# Altium integrated library TI Amplifiers and Linear Operational Amplifier Fully Differential Amplifier.IntLib: 262 symbols (part 8 of 11)
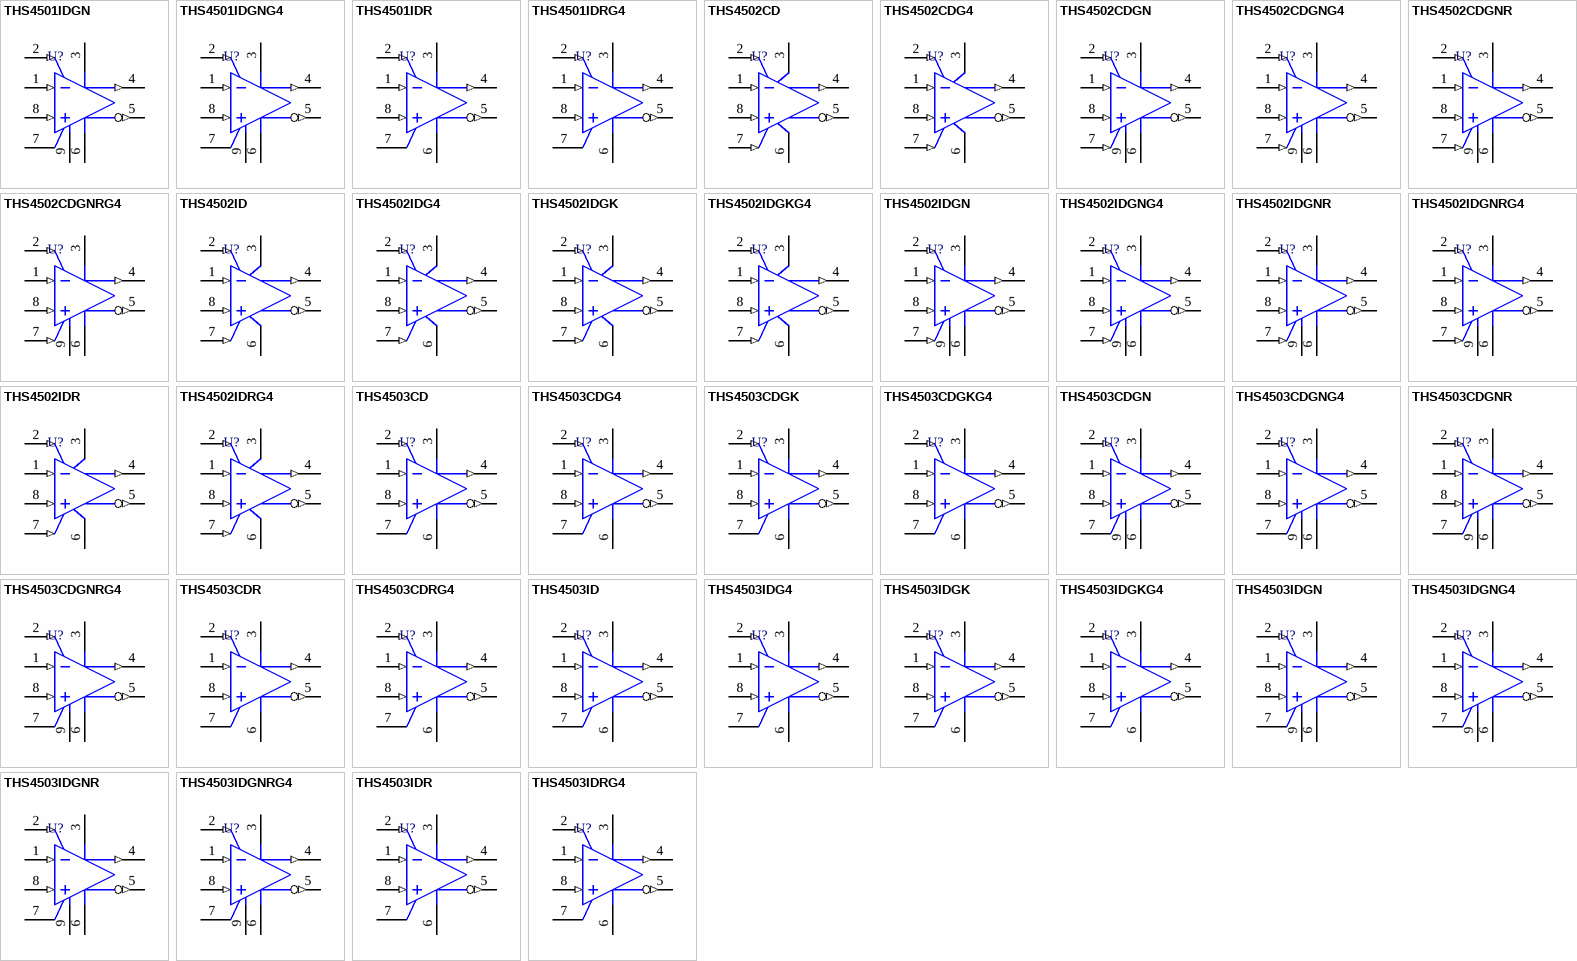
[diagram p14: symbols THS4501IDGN to THS4503IDRG4]

## THS4503CDGNRG4
designator U?
High-Speed Fully-Differential Amplifier, 4.5 to 15 V, 0 to 70 degC, 8-pin SOP (DGN8), Green (RoHS & no Sb/Br); Manufacturer: Texas Instruments; PartNumber: THS4503CDGNRG4; 2nd Harmonic(dBc): 74; 3rd Harmonic(dBc): 78; @ MHz: 30; BW @ Acl(MHz): 370; Io(Typ)(mA): 120; Iq per channel(Max)(mA): 34; Number of Channels: 1; Offset Voltage Drift (+/-)(Max)(uV/Degrees Celsius: 10; Settling Time (0.1%)(Typ)(ns): 6.3; Slew Rate(Typ)(V/us): 2800; SubFamily: Fully Differential Amplifier; THD (Fc is 1 MHz)(Typ)(dB): -99; Vio(Max)(mV): -4; Vn at Flatband(Typ)(nV/rtHz): 6.8; Vs(Max)(V): 15; Vs(Min)(V): 4.5; DatasheetVersion: SLOS352E; PackageVersion: 4073271/F, 05/2011; PackageReference: DGN8-1760X1425TP; PackageDescription: 8-Pin Plastic Small Outline, Body 3 x 3 mm, Pitch 0.65 mm; Supplier 1: Digi-Key; Supplier Part Number 1: THS4503CDGNRG4-ND; Supplier 2: Newark; Supplier Part Number 2: 24K5063; Supplier 3: Mouser; Supplier Part Number 3: 595-THS4503CDGNRG4; Eco-Plan: Green (RoHS & no Sb/Br); Mounting Technology: Surface Mount; Code_JEDEC: MO-187; ComponentLink1Description: Manufacturer URL; ComponentLink1URL: http://www.ti.com/; ComponentLink2Description: Datasheet; ComponentLink2URL: http://www.ti.com/general/docs/lit/getliterature.tsp?genericPartNumber=THS4503&fileType=pdf; ComponentLink3Description: Package Specification; ComponentLink3URL: http://www.ti.com/litv/pdf/mpds046e
footprint TI-DGN8-1760X1425TP_N (SOP, 8-Leads, Body 3x3mm, Pitch 0.65mm, Thermal Pad 1.76x1.425mm, IPC Medium Density)
footprint TI-DGN8-1760X1425TP_L (SOP, 8-Leads, Body 3x3mm, Pitch 0.65mm, Thermal Pad 1.76x1.425mm, IPC High Density)
footprint TI-DGN8-1760X1425TP_M (SOP, 8-Leads, Body 3x3mm, Pitch 0.65mm, Thermal Pad 1.76 x 1.425 mm, IPC Low Density)
pins: 1 VIN- (in), 2 VOCM (in), 3 VS+ (power), 4 VOUT+ (out), 5 VOUT- (out), 6 VS- (power), 7 NC, 8 VIN+ (in), 9 EP

## THS4503CDR
designator U?
High-Speed Fully-Differential Amplifier, 4.5 to 15 V, 0 to 70 degC, 8-pin SOIC (D8), Green (RoHS & no Sb/Br); Manufacturer: Texas Instruments; PartNumber: THS4503CDR; 2nd Harmonic(dBc): 74; 3rd Harmonic(dBc): 78; @ MHz: 30; BW @ Acl(MHz): 370; Io(Typ)(mA): 120; Iq per channel(Max)(mA): 34; Number of Channels: 1; Offset Voltage Drift (+/-)(Max)(uV/Degrees Celsius: 10; Settling Time (0.1%)(Typ)(ns): 6.3; Slew Rate(Typ)(V/us): 2800; SubFamily: Fully Differential Amplifier; THD (Fc is 1 MHz)(Typ)(dB): -99; Vio(Max)(mV): -4; Vn at Flatband(Typ)(nV/rtHz): 6.8; Vs(Max)(V): 15; Vs(Min)(V): 4.5; DatasheetVersion: SLOS352E; PackageVersion: 4040047-3/M, 06/2011; PackageReference: D8; PackageDescription: 8-Pin Plastic Small Outline, Body 4.9 x 3.9 mm, Pitch 1.27 mm; Supplier 1: Digi-Key; Supplier Part Number 1: THS4503CDR-ND; Supplier 2: Mouser; Supplier Part Number 2: 595-THS4503CDR; Eco-Plan: Green (RoHS & no Sb/Br); Mounting Technology: Surface Mount; Code_JEDEC: MS-012; ComponentLink1Description: Manufacturer URL; ComponentLink1URL: http://www.ti.com/; ComponentLink2Description: Datasheet; ComponentLink2URL: http://www.ti.com/general/docs/lit/getliterature.tsp?genericPartNumber=THS4503&fileType=pdf; ComponentLink3Description: Package Specification; ComponentLink3URL: http://www.ti.com/litv/pdf/msoi002j
footprint TI-D8_N (SOIC, 8-Leads, Body 4.9x3.9mm, Pitch 1.27mm, IPC Medium Density)
footprint TI-D8_L (SOIC, 8-Leads, Body 4.9x3.9mm, Pitch 1.27mm, IPC High Density)
footprint TI-D8_M (SOIC, 8-Leads, Body 4.9x3.9mm, Pitch 1.27mm, IPC Low Density)
pins: 1 VIN- (in), 2 VOCM (in), 3 VS+ (power), 4 VOUT+ (out), 5 VOUT- (out), 6 VS- (power), 7 NC, 8 VIN+ (in)

## THS4503CDRG4
designator U?
High-Speed Fully-Differential Amplifier, 4.5 to 15 V, 0 to 70 degC, 8-pin SOIC (D8), Green (RoHS & no Sb/Br); Manufacturer: Texas Instruments; PartNumber: THS4503CDRG4; 2nd Harmonic(dBc): 74; 3rd Harmonic(dBc): 78; @ MHz: 30; BW @ Acl(MHz): 370; Io(Typ)(mA): 120; Iq per channel(Max)(mA): 34; Number of Channels: 1; Offset Voltage Drift (+/-)(Max)(uV/Degrees Celsius: 10; Settling Time (0.1%)(Typ)(ns): 6.3; Slew Rate(Typ)(V/us): 2800; SubFamily: Fully Differential Amplifier; THD (Fc is 1 MHz)(Typ)(dB): -99; Vio(Max)(mV): -4; Vn at Flatband(Typ)(nV/rtHz): 6.8; Vs(Max)(V): 15; Vs(Min)(V): 4.5; DatasheetVersion: SLOS352E; PackageVersion: 4040047-3/M, 06/2011; PackageReference: D8; PackageDescription: 8-Pin Plastic Small Outline, Body 4.9 x 3.9 mm, Pitch 1.27 mm; Supplier 1: Digi-Key; Supplier Part Number 1: THS4503CDRG4-ND; Supplier 2: Mouser; Supplier Part Number 2: 595-THS4503CDRG4; Eco-Plan: Green (RoHS & no Sb/Br); Mounting Technology: Surface Mount; Code_JEDEC: MS-012; ComponentLink1Description: Manufacturer URL; ComponentLink1URL: http://www.ti.com/; ComponentLink2Description: Datasheet; ComponentLink2URL: http://www.ti.com/general/docs/lit/getliterature.tsp?genericPartNumber=THS4503&fileType=pdf; ComponentLink3Description: Package Specification; ComponentLink3URL: http://www.ti.com/litv/pdf/msoi002j
footprint TI-D8_N (SOIC, 8-Leads, Body 4.9x3.9mm, Pitch 1.27mm, IPC Medium Density)
footprint TI-D8_L (SOIC, 8-Leads, Body 4.9x3.9mm, Pitch 1.27mm, IPC High Density)
footprint TI-D8_M (SOIC, 8-Leads, Body 4.9x3.9mm, Pitch 1.27mm, IPC Low Density)
pins: 1 VIN- (in), 2 VOCM (in), 3 VS+ (power), 4 VOUT+ (out), 5 VOUT- (out), 6 VS- (power), 7 NC, 8 VIN+ (in)

## THS4503ID
designator U?
High-Speed Fully-Differential Amplifier, 4.5 to 15 V, -40 to 85 degC, 8-pin SOIC (D8), Green (RoHS & no Sb/Br); Manufacturer: Texas Instruments; PartNumber: THS4503ID; 2nd Harmonic(dBc): 74; 3rd Harmonic(dBc): 78; @ MHz: 30; BW @ Acl(MHz): 370; Io(Typ)(mA): 120; Iq per channel(Max)(mA): 34; Number of Channels: 1; Offset Voltage Drift (+/-)(Max)(uV/Degrees Celsius: 10; Settling Time (0.1%)(Typ)(ns): 6.3; Slew Rate(Typ)(V/us): 2800; SubFamily: Fully Differential Amplifier; THD (Fc is 1 MHz)(Typ)(dB): -99; Vio(Max)(mV): -4; Vn at Flatband(Typ)(nV/rtHz): 6.8; Vs(Max)(V): 15; Vs(Min)(V): 4.5; DatasheetVersion: SLOS352E; PackageVersion: 4040047-3/M, 06/2011; PackageReference: D8; PackageDescription: 8-Pin Plastic Small Outline, Body 4.9 x 3.9 mm, Pitch 1.27 mm; Supplier 1: Digi-Key; Supplier Part Number 1: 296-12938-5-ND; Supplier 2: Farnell; Supplier Part Number 2: 1365426; Supplier 3: Newark; Supplier Part Number 3: 76C6477; Supplier 4: Mouser; Supplier Part Number 4: 595-THS4503ID; Eco-Plan: Green (RoHS & no Sb/Br); Mounting Technology: Surface Mount; Code_JEDEC: MS-012; ComponentLink1Description: Manufacturer URL; ComponentLink1URL: http://www.ti.com/; ComponentLink2Description: Datasheet; ComponentLink2URL: http://www.ti.com/general/docs/lit/getliterature.tsp?genericPartNumber=THS4503&fileType=pdf; ComponentLink3Description: Package Specification; ComponentLink3URL: http://www.ti.com/litv/pdf/msoi002j
footprint TI-D8_N (SOIC, 8-Leads, Body 4.9x3.9mm, Pitch 1.27mm, IPC Medium Density)
footprint TI-D8_L (SOIC, 8-Leads, Body 4.9x3.9mm, Pitch 1.27mm, IPC High Density)
footprint TI-D8_M (SOIC, 8-Leads, Body 4.9x3.9mm, Pitch 1.27mm, IPC Low Density)
pins: 1 VIN- (in), 2 VOCM (in), 3 VS+ (power), 4 VOUT+ (out), 5 VOUT- (out), 6 VS- (power), 7 NC, 8 VIN+ (in)

## THS4503IDG4
designator U?
High-Speed Fully-Differential Amplifier, 4.5 to 15 V, -40 to 85 degC, 8-pin SOIC (D8), Green (RoHS & no Sb/Br); Manufacturer: Texas Instruments; PartNumber: THS4503IDG4; 2nd Harmonic(dBc): 74; 3rd Harmonic(dBc): 78; @ MHz: 30; BW @ Acl(MHz): 370; Io(Typ)(mA): 120; Iq per channel(Max)(mA): 34; Number of Channels: 1; Offset Voltage Drift (+/-)(Max)(uV/Degrees Celsius: 10; Settling Time (0.1%)(Typ)(ns): 6.3; Slew Rate(Typ)(V/us): 2800; SubFamily: Fully Differential Amplifier; THD (Fc is 1 MHz)(Typ)(dB): -99; Vio(Max)(mV): -4; Vn at Flatband(Typ)(nV/rtHz): 6.8; Vs(Max)(V): 15; Vs(Min)(V): 4.5; DatasheetVersion: SLOS352E; PackageVersion: 4040047-3/M, 06/2011; PackageReference: D8; PackageDescription: 8-Pin Plastic Small Outline, Body 4.9 x 3.9 mm, Pitch 1.27 mm; Supplier 1: Digi-Key; Supplier Part Number 1: THS4503IDG4-ND; Supplier 2: Mouser; Supplier Part Number 2: 595-THS4503IDG4; Eco-Plan: Green (RoHS & no Sb/Br); Mounting Technology: Surface Mount; Code_JEDEC: MS-012; ComponentLink1Description: Manufacturer URL; ComponentLink1URL: http://www.ti.com/; ComponentLink2Description: Datasheet; ComponentLink2URL: http://www.ti.com/general/docs/lit/getliterature.tsp?genericPartNumber=THS4503&fileType=pdf; ComponentLink3Description: Package Specification; ComponentLink3URL: http://www.ti.com/litv/pdf/msoi002j
footprint TI-D8_N (SOIC, 8-Leads, Body 4.9x3.9mm, Pitch 1.27mm, IPC Medium Density)
footprint TI-D8_L (SOIC, 8-Leads, Body 4.9x3.9mm, Pitch 1.27mm, IPC High Density)
footprint TI-D8_M (SOIC, 8-Leads, Body 4.9x3.9mm, Pitch 1.27mm, IPC Low Density)
pins: 1 VIN- (in), 2 VOCM (in), 3 VS+ (power), 4 VOUT+ (out), 5 VOUT- (out), 6 VS- (power), 7 NC, 8 VIN+ (in)

## THS4503IDGK
designator U?
High-Speed Fully-Differential Amplifier, 4.5 to 15 V, -40 to 85 degC, 8-pin SOP (DGK8), Green (RoHS & no Sb/Br); Manufacturer: Texas Instruments; PartNumber: THS4503IDGK; 2nd Harmonic(dBc): 74; 3rd Harmonic(dBc): 78; @ MHz: 30; BW @ Acl(MHz): 370; Io(Typ)(mA): 120; Iq per channel(Max)(mA): 34; Number of Channels: 1; Offset Voltage Drift (+/-)(Max)(uV/Degrees Celsius: 10; Settling Time (0.1%)(Typ)(ns): 6.3; Slew Rate(Typ)(V/us): 2800; SubFamily: Fully Differential Amplifier; THD (Fc is 1 MHz)(Typ)(dB): -99; Vio(Max)(mV): -4; Vn at Flatband(Typ)(nV/rtHz): 6.8; Vs(Max)(V): 15; Vs(Min)(V): 4.5; DatasheetVersion: SLOS352E; PackageVersion: 4073329/E, 05/2006; PackageReference: DGK8; PackageDescription: 8-Pin Thin Small Outline, Body 3 x 3 mm, Pitch 0.65 mm; Supplier 1: Digi-Key; Supplier Part Number 1: 296-16790-5-ND; Supplier 2: Mouser; Supplier Part Number 2: 595-THS4503IDGK; Eco-Plan: Green (RoHS & no Sb/Br); Mounting Technology: Surface Mount; Code_JEDEC: MO-187; ComponentLink1Description: Manufacturer URL; ComponentLink1URL: http://www.ti.com/; ComponentLink2Description: Datasheet; ComponentLink2URL: http://www.ti.com/general/docs/lit/getliterature.tsp?genericPartNumber=THS4503&fileType=pdf; ComponentLink3Description: Package Specification; ComponentLink3URL: http://www.ti.com/litv/pdf/mpds028d
footprint TI-DGK8_N (SOP, 8-Leads, Body 3x3mm, Pitch 0.65mm, IPC Medium Density)
footprint TI-DGK8_L (SOP, 8-Leads, Body 3x3mm, Pitch 0.65mm, IPC High Density)
footprint TI-DGK8_M (SOP, 8-Leads, Body 3x3mm, Pitch 0.65mm, IPC Low Density)
pins: 1 VIN- (in), 2 VOCM (in), 3 VS+ (power), 4 VOUT+ (out), 5 VOUT- (out), 6 VS- (power), 7 NC, 8 VIN+ (in)

## THS4503IDGKG4
designator U?
High-Speed Fully-Differential Amplifier, 4.5 to 15 V, -40 to 85 degC, 8-pin SOP (DGK8), Green (RoHS & no Sb/Br); Manufacturer: Texas Instruments; PartNumber: THS4503IDGKG4; 2nd Harmonic(dBc): 74; 3rd Harmonic(dBc): 78; @ MHz: 30; BW @ Acl(MHz): 370; Io(Typ)(mA): 120; Iq per channel(Max)(mA): 34; Number of Channels: 1; Offset Voltage Drift (+/-)(Max)(uV/Degrees Celsius: 10; Settling Time (0.1%)(Typ)(ns): 6.3; Slew Rate(Typ)(V/us): 2800; SubFamily: Fully Differential Amplifier; THD (Fc is 1 MHz)(Typ)(dB): -99; Vio(Max)(mV): -4; Vn at Flatband(Typ)(nV/rtHz): 6.8; Vs(Max)(V): 15; Vs(Min)(V): 4.5; DatasheetVersion: SLOS352E; PackageVersion: 4073329/E, 05/2006; PackageReference: DGK8; PackageDescription: 8-Pin Thin Small Outline, Body 3 x 3 mm, Pitch 0.65 mm; Supplier 1: Digi-Key; Supplier Part Number 1: THS4503IDGKG4-ND; Supplier 2: Mouser; Supplier Part Number 2: 595-THS4503IDGKG4; Eco-Plan: Green (RoHS & no Sb/Br); Mounting Technology: Surface Mount; Code_JEDEC: MO-187; ComponentLink1Description: Manufacturer URL; ComponentLink1URL: http://www.ti.com/; ComponentLink2Description: Datasheet; ComponentLink2URL: http://www.ti.com/general/docs/lit/getliterature.tsp?genericPartNumber=THS4503&fileType=pdf; ComponentLink3Description: Package Specification; ComponentLink3URL: http://www.ti.com/litv/pdf/mpds028d
footprint TI-DGK8_N (SOP, 8-Leads, Body 3x3mm, Pitch 0.65mm, IPC Medium Density)
footprint TI-DGK8_L (SOP, 8-Leads, Body 3x3mm, Pitch 0.65mm, IPC High Density)
footprint TI-DGK8_M (SOP, 8-Leads, Body 3x3mm, Pitch 0.65mm, IPC Low Density)
pins: 1 VIN- (in), 2 VOCM (in), 3 VS+ (power), 4 VOUT+ (out), 5 VOUT- (out), 6 VS- (power), 7 NC, 8 VIN+ (in)

## THS4503IDGN
designator U?
High-Speed Fully-Differential Amplifier, 4.5 to 15 V, -40 to 85 degC, 8-pin SOP (DGN8), Green (RoHS & no Sb/Br); Manufacturer: Texas Instruments; PartNumber: THS4503IDGN; 2nd Harmonic(dBc): 74; 3rd Harmonic(dBc): 78; @ MHz: 30; BW @ Acl(MHz): 370; Io(Typ)(mA): 120; Iq per channel(Max)(mA): 34; Number of Channels: 1; Offset Voltage Drift (+/-)(Max)(uV/Degrees Celsius: 10; Settling Time (0.1%)(Typ)(ns): 6.3; Slew Rate(Typ)(V/us): 2800; SubFamily: Fully Differential Amplifier; THD (Fc is 1 MHz)(Typ)(dB): -99; Vio(Max)(mV): -4; Vn at Flatband(Typ)(nV/rtHz): 6.8; Vs(Max)(V): 15; Vs(Min)(V): 4.5; DatasheetVersion: SLOS352E; PackageVersion: 4073271/F, 05/2011; PackageReference: DGN8-1760X1425TP; PackageDescription: 8-Pin Plastic Small Outline, Body 3 x 3 mm, Pitch 0.65 mm; Supplier 1: Digi-Key; Supplier Part Number 1: 296-13048-5-ND; Supplier 2: Farnell; Supplier Part Number 2: 8453403; Supplier 3: Newark; Supplier Part Number 3: 38K8266; Supplier 4: Newark; Supplier Part Number 4: 73C7816; Supplier 5: Mouser; Supplier Part Number 5: 595-THS4503IDGN; Eco-Plan: Green (RoHS & no Sb/Br); Mounting Technology: Surface Mount; Code_JEDEC: MO-187; ComponentLink1Description: Manufacturer URL; ComponentLink1URL: http://www.ti.com/; ComponentLink2Description: Datasheet; ComponentLink2URL: http://www.ti.com/general/docs/lit/getliterature.tsp?genericPartNumber=THS4503&fileType=pdf; ComponentLink3Description: Package Specification; ComponentLink3URL: http://www.ti.com/litv/pdf/mpds046e
footprint TI-DGN8-1760X1425TP_N (SOP, 8-Leads, Body 3x3mm, Pitch 0.65mm, Thermal Pad 1.76x1.425mm, IPC Medium Density)
footprint TI-DGN8-1760X1425TP_L (SOP, 8-Leads, Body 3x3mm, Pitch 0.65mm, Thermal Pad 1.76x1.425mm, IPC High Density)
footprint TI-DGN8-1760X1425TP_M (SOP, 8-Leads, Body 3x3mm, Pitch 0.65mm, Thermal Pad 1.76 x 1.425 mm, IPC Low Density)
pins: 1 VIN- (in), 2 VOCM (in), 3 VS+ (power), 4 VOUT+ (out), 5 VOUT- (out), 6 VS- (power), 7 NC, 8 VIN+ (in), 9 EP

## THS4503IDGNG4
designator U?
High-Speed Fully-Differential Amplifier, 4.5 to 15 V, -40 to 85 degC, 8-pin SOP (DGN8), Green (RoHS & no Sb/Br); Manufacturer: Texas Instruments; PartNumber: THS4503IDGNG4; 2nd Harmonic(dBc): 74; 3rd Harmonic(dBc): 78; @ MHz: 30; BW @ Acl(MHz): 370; Io(Typ)(mA): 120; Iq per channel(Max)(mA): 34; Number of Channels: 1; Offset Voltage Drift (+/-)(Max)(uV/Degrees Celsius: 10; Settling Time (0.1%)(Typ)(ns): 6.3; Slew Rate(Typ)(V/us): 2800; SubFamily: Fully Differential Amplifier; THD (Fc is 1 MHz)(Typ)(dB): -99; Vio(Max)(mV): -4; Vn at Flatband(Typ)(nV/rtHz): 6.8; Vs(Max)(V): 15; Vs(Min)(V): 4.5; DatasheetVersion: SLOS352E; PackageVersion: 4073271/F, 05/2011; PackageReference: DGN8-1760X1425TP; PackageDescription: 8-Pin Plastic Small Outline, Body 3 x 3 mm, Pitch 0.65 mm; Supplier 1: Digi-Key; Supplier Part Number 1: THS4503IDGNG4-ND; Supplier 2: Mouser; Supplier Part Number 2: 595-THS4503IDGNG4; Eco-Plan: Green (RoHS & no Sb/Br); Mounting Technology: Surface Mount; Code_JEDEC: MO-187; ComponentLink1Description: Manufacturer URL; ComponentLink1URL: http://www.ti.com/; ComponentLink2Description: Datasheet; ComponentLink2URL: http://www.ti.com/general/docs/lit/getliterature.tsp?genericPartNumber=THS4503&fileType=pdf; ComponentLink3Description: Package Specification; ComponentLink3URL: http://www.ti.com/litv/pdf/mpds046e
footprint TI-DGN8-1760X1425TP_N (SOP, 8-Leads, Body 3x3mm, Pitch 0.65mm, Thermal Pad 1.76x1.425mm, IPC Medium Density)
footprint TI-DGN8-1760X1425TP_L (SOP, 8-Leads, Body 3x3mm, Pitch 0.65mm, Thermal Pad 1.76x1.425mm, IPC High Density)
footprint TI-DGN8-1760X1425TP_M (SOP, 8-Leads, Body 3x3mm, Pitch 0.65mm, Thermal Pad 1.76 x 1.425 mm, IPC Low Density)
pins: 1 VIN- (in), 2 VOCM (in), 3 VS+ (power), 4 VOUT+ (out), 5 VOUT- (out), 6 VS- (power), 7 NC, 8 VIN+ (in), 9 EP

## THS4503IDGNR
designator U?
High-Speed Fully-Differential Amplifier, 4.5 to 15 V, -40 to 85 degC, 8-pin SOP (DGN8), Green (RoHS & no Sb/Br); Manufacturer: Texas Instruments; PartNumber: THS4503IDGNR; 2nd Harmonic(dBc): 74; 3rd Harmonic(dBc): 78; @ MHz: 30; BW @ Acl(MHz): 370; Io(Typ)(mA): 120; Iq per channel(Max)(mA): 34; Number of Channels: 1; Offset Voltage Drift (+/-)(Max)(uV/Degrees Celsius: 10; Settling Time (0.1%)(Typ)(ns): 6.3; Slew Rate(Typ)(V/us): 2800; SubFamily: Fully Differential Amplifier; THD (Fc is 1 MHz)(Typ)(dB): -99; Vio(Max)(mV): -4; Vn at Flatband(Typ)(nV/rtHz): 6.8; Vs(Max)(V): 15; Vs(Min)(V): 4.5; DatasheetVersion: SLOS352E; PackageVersion: 4073271/F, 05/2011; PackageReference: DGN8-1760X1425TP; PackageDescription: 8-Pin Plastic Small Outline, Body 3 x 3 mm, Pitch 0.65 mm; Supplier 1: Digi-Key; Supplier Part Number 1: THS4503IDGNR-ND; Supplier 2: Mouser; Supplier Part Number 2: 595-THS4503IDGNR; Eco-Plan: Green (RoHS & no Sb/Br); Mounting Technology: Surface Mount; Code_JEDEC: MO-187; ComponentLink1Description: Manufacturer URL; ComponentLink1URL: http://www.ti.com/; ComponentLink2Description: Datasheet; ComponentLink2URL: http://www.ti.com/general/docs/lit/getliterature.tsp?genericPartNumber=THS4503&fileType=pdf; ComponentLink3Description: Package Specification; ComponentLink3URL: http://www.ti.com/litv/pdf/mpds046e
footprint TI-DGN8-1760X1425TP_N (SOP, 8-Leads, Body 3x3mm, Pitch 0.65mm, Thermal Pad 1.76x1.425mm, IPC Medium Density)
footprint TI-DGN8-1760X1425TP_L (SOP, 8-Leads, Body 3x3mm, Pitch 0.65mm, Thermal Pad 1.76x1.425mm, IPC High Density)
footprint TI-DGN8-1760X1425TP_M (SOP, 8-Leads, Body 3x3mm, Pitch 0.65mm, Thermal Pad 1.76 x 1.425 mm, IPC Low Density)
pins: 1 VIN- (in), 2 VOCM (in), 3 VS+ (power), 4 VOUT+ (out), 5 VOUT- (out), 6 VS- (power), 7 NC, 8 VIN+ (in), 9 EP

## THS4503IDGNRG4
designator U?
High-Speed Fully-Differential Amplifier, 4.5 to 15 V, -40 to 85 degC, 8-pin SOP (DGN8), Green (RoHS & no Sb/Br); Manufacturer: Texas Instruments; PartNumber: THS4503IDGNRG4; 2nd Harmonic(dBc): 74; 3rd Harmonic(dBc): 78; @ MHz: 30; BW @ Acl(MHz): 370; Io(Typ)(mA): 120; Iq per channel(Max)(mA): 34; Number of Channels: 1; Offset Voltage Drift (+/-)(Max)(uV/Degrees Celsius: 10; Settling Time (0.1%)(Typ)(ns): 6.3; Slew Rate(Typ)(V/us): 2800; SubFamily: Fully Differential Amplifier; THD (Fc is 1 MHz)(Typ)(dB): -99; Vio(Max)(mV): -4; Vn at Flatband(Typ)(nV/rtHz): 6.8; Vs(Max)(V): 15; Vs(Min)(V): 4.5; DatasheetVersion: SLOS352E; PackageVersion: 4073271/F, 05/2011; PackageReference: DGN8-1760X1425TP; PackageDescription: 8-Pin Plastic Small Outline, Body 3 x 3 mm, Pitch 0.65 mm; Supplier 1: Digi-Key; Supplier Part Number 1: THS4503IDGNRG4-ND; Supplier 2: Mouser; Supplier Part Number 2: 595-THS4503IDGNRG4; Eco-Plan: Green (RoHS & no Sb/Br); Mounting Technology: Surface Mount; Code_JEDEC: MO-187; ComponentLink1Description: Manufacturer URL; ComponentLink1URL: http://www.ti.com/; ComponentLink2Description: Datasheet; ComponentLink2URL: http://www.ti.com/general/docs/lit/getliterature.tsp?genericPartNumber=THS4503&fileType=pdf; ComponentLink3Description: Package Specification; ComponentLink3URL: http://www.ti.com/litv/pdf/mpds046e
footprint TI-DGN8-1760X1425TP_N (SOP, 8-Leads, Body 3x3mm, Pitch 0.65mm, Thermal Pad 1.76x1.425mm, IPC Medium Density)
footprint TI-DGN8-1760X1425TP_L (SOP, 8-Leads, Body 3x3mm, Pitch 0.65mm, Thermal Pad 1.76x1.425mm, IPC High Density)
footprint TI-DGN8-1760X1425TP_M (SOP, 8-Leads, Body 3x3mm, Pitch 0.65mm, Thermal Pad 1.76 x 1.425 mm, IPC Low Density)
pins: 1 VIN- (in), 2 VOCM (in), 3 VS+ (power), 4 VOUT+ (out), 5 VOUT- (out), 6 VS- (power), 7 NC, 8 VIN+ (in), 9 EP

## THS4503IDR
designator U?
High-Speed Fully-Differential Amplifier, 4.5 to 15 V, -40 to 85 degC, 8-pin SOIC (D8), Green (RoHS & no Sb/Br); Manufacturer: Texas Instruments; PartNumber: THS4503IDR; 2nd Harmonic(dBc): 74; 3rd Harmonic(dBc): 78; @ MHz: 30; BW @ Acl(MHz): 370; Io(Typ)(mA): 120; Iq per channel(Max)(mA): 34; Number of Channels: 1; Offset Voltage Drift (+/-)(Max)(uV/Degrees Celsius: 10; Settling Time (0.1%)(Typ)(ns): 6.3; Slew Rate(Typ)(V/us): 2800; SubFamily: Fully Differential Amplifier; THD (Fc is 1 MHz)(Typ)(dB): -99; Vio(Max)(mV): -4; Vn at Flatband(Typ)(nV/rtHz): 6.8; Vs(Max)(V): 15; Vs(Min)(V): 4.5; DatasheetVersion: SLOS352E; PackageVersion: 4040047-3/M, 06/2011; PackageReference: D8; PackageDescription: 8-Pin Plastic Small Outline, Body 4.9 x 3.9 mm, Pitch 1.27 mm; Supplier 1: Digi-Key; Supplier Part Number 1: THS4503IDR-ND; Supplier 2: Mouser; Supplier Part Number 2: 595-THS4503IDR; Eco-Plan: Green (RoHS & no Sb/Br); Mounting Technology: Surface Mount; Code_JEDEC: MS-012; ComponentLink1Description: Manufacturer URL; ComponentLink1URL: http://www.ti.com/; ComponentLink2Description: Datasheet; ComponentLink2URL: http://www.ti.com/general/docs/lit/getliterature.tsp?genericPartNumber=THS4503&fileType=pdf; ComponentLink3Description: Package Specification; ComponentLink3URL: http://www.ti.com/litv/pdf/msoi002j
footprint TI-D8_N (SOIC, 8-Leads, Body 4.9x3.9mm, Pitch 1.27mm, IPC Medium Density)
footprint TI-D8_L (SOIC, 8-Leads, Body 4.9x3.9mm, Pitch 1.27mm, IPC High Density)
footprint TI-D8_M (SOIC, 8-Leads, Body 4.9x3.9mm, Pitch 1.27mm, IPC Low Density)
pins: 1 VIN- (in), 2 VOCM (in), 3 VS+ (power), 4 VOUT+ (out), 5 VOUT- (out), 6 VS- (power), 7 NC, 8 VIN+ (in)

## THS4503IDRG4
designator U?
High-Speed Fully-Differential Amplifier, 4.5 to 15 V, -40 to 85 degC, 8-pin SOIC (D8), Green (RoHS & no Sb/Br); Manufacturer: Texas Instruments; PartNumber: THS4503IDRG4; 2nd Harmonic(dBc): 74; 3rd Harmonic(dBc): 78; @ MHz: 30; BW @ Acl(MHz): 370; Io(Typ)(mA): 120; Iq per channel(Max)(mA): 34; Number of Channels: 1; Offset Voltage Drift (+/-)(Max)(uV/Degrees Celsius: 10; Settling Time (0.1%)(Typ)(ns): 6.3; Slew Rate(Typ)(V/us): 2800; SubFamily: Fully Differential Amplifier; THD (Fc is 1 MHz)(Typ)(dB): -99; Vio(Max)(mV): -4; Vn at Flatband(Typ)(nV/rtHz): 6.8; Vs(Max)(V): 15; Vs(Min)(V): 4.5; DatasheetVersion: SLOS352E; PackageVersion: 4040047-3/M, 06/2011; PackageReference: D8; PackageDescription: 8-Pin Plastic Small Outline, Body 4.9 x 3.9 mm, Pitch 1.27 mm; Supplier 1: Digi-Key; Supplier Part Number 1: THS4503IDRG4-ND; Supplier 2: Mouser; Supplier Part Number 2: 595-THS4503IDRG4; Eco-Plan: Green (RoHS & no Sb/Br); Mounting Technology: Surface Mount; Code_JEDEC: MS-012; ComponentLink1Description: Manufacturer URL; ComponentLink1URL: http://www.ti.com/; ComponentLink2Description: Datasheet; ComponentLink2URL: http://www.ti.com/general/docs/lit/getliterature.tsp?genericPartNumber=THS4503&fileType=pdf; ComponentLink3Description: Package Specification; ComponentLink3URL: http://www.ti.com/litv/pdf/msoi002j
footprint TI-D8_N (SOIC, 8-Leads, Body 4.9x3.9mm, Pitch 1.27mm, IPC Medium Density)
footprint TI-D8_L (SOIC, 8-Leads, Body 4.9x3.9mm, Pitch 1.27mm, IPC High Density)
footprint TI-D8_M (SOIC, 8-Leads, Body 4.9x3.9mm, Pitch 1.27mm, IPC Low Density)
pins: 1 VIN- (in), 2 VOCM (in), 3 VS+ (power), 4 VOUT+ (out), 5 VOUT- (out), 6 VS- (power), 7 NC, 8 VIN+ (in)

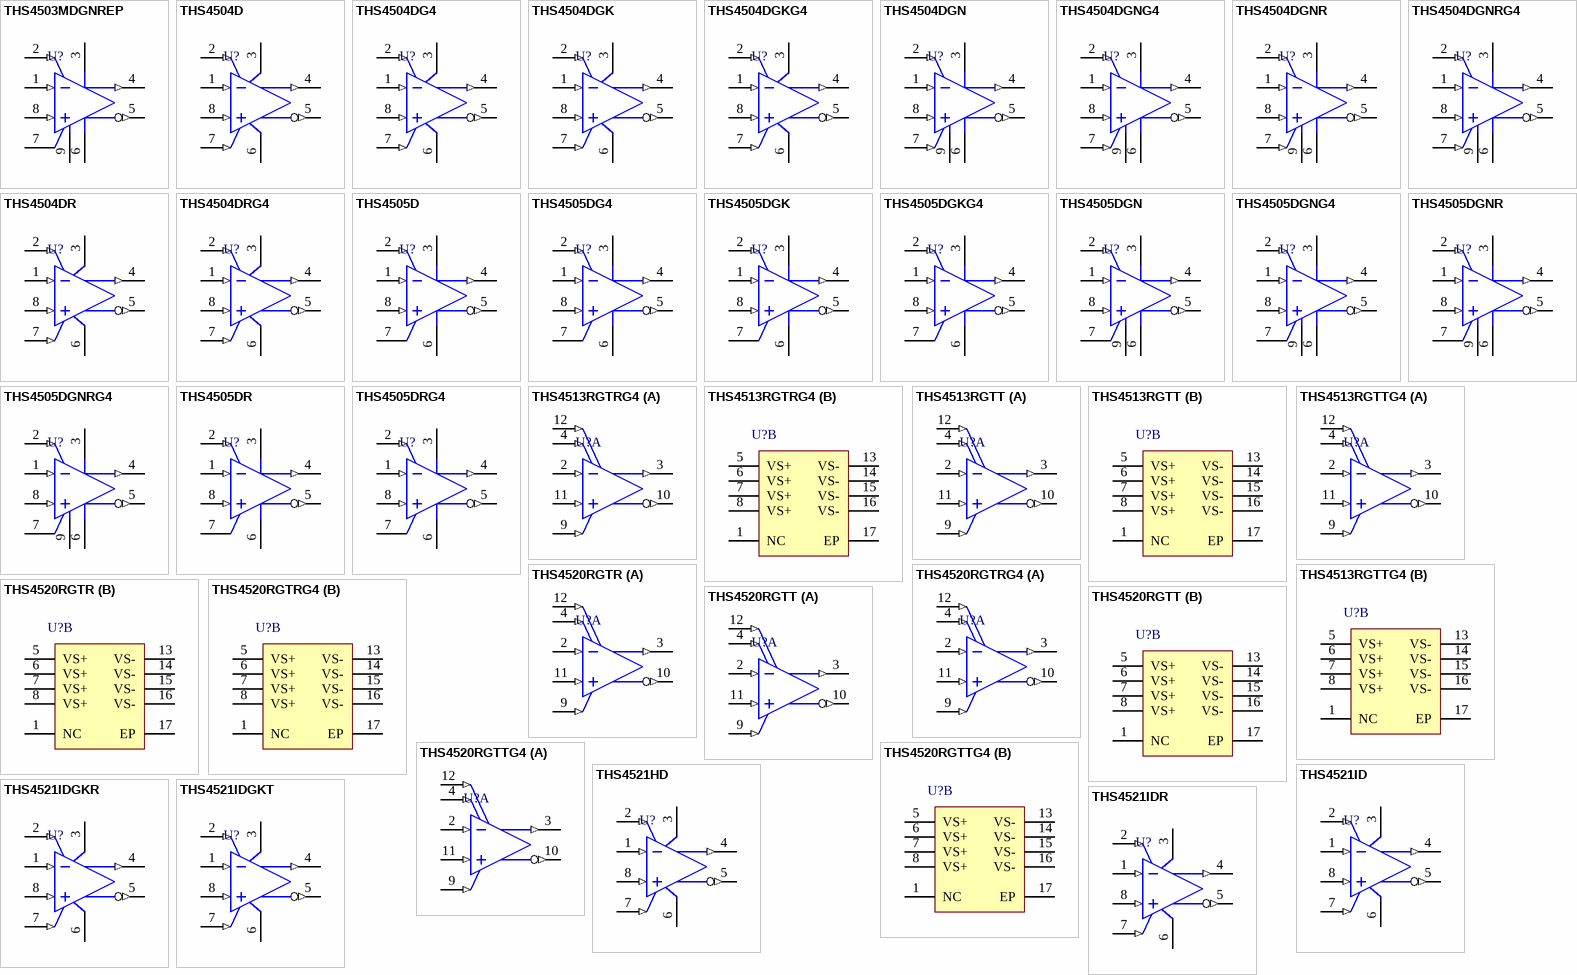
[diagram p5: symbols THS4503MDGNREP to THS4521IDR]

## THS4503MDGNREP
designator U?
Enhanced Product Wideband Low-Distortion Fully Differential Amplifier, 4.5 to 15 V, -55 to 60 degC, 8-pin SOP (DGN8), Green (RoHS & no Sb/Br); Manufacturer: Texas Instruments; PartNumber: THS4503MDGNREP; 2nd Harmonic(dBc): 74; 3rd Harmonic(dBc): 78; @ MHz: 30; BW @ Acl(MHz): 370; Iq per channel(Max)(mA): 28; Number of Channels: 1; Offset Voltage Drift (+/-)(Max)(uV/Degrees Celsius: 10; Settling Time (0.1%)(Typ)(ns): 8.3; Slew Rate(Typ)(V/us): 2800; Vio(Max)(mV): 7; Vn at Flatband(Typ)(nV/rtHz): 6.8; Vs(Max)(V): 15; Vs(Min)(V): 4.5; DatasheetVersion: SGLS291A; PackageVersion: 4073271/F, 05/2011; PackageReference: DGN8-1760X1425TP; PackageDescription: 8-Pin Plastic Small Outline, Body 3 x 3 mm, Pitch 0.65 mm; Supplier 1: Digi-Key; Supplier Part Number 1: 296-19510-2-ND; Supplier 2: Digi-Key; Supplier Part Number 2: 296-19510-1-ND; Supplier 3: Digi-Key; Supplier Part Number 3: 296-19510-6-ND; Supplier 4: Mouser; Supplier Part Number 4: 595-THS4503MDGNREP; Eco-Plan: Green (RoHS & no Sb/Br); SubFamily: Fully Differential Amplifier; Mounting Technology: Surface Mount; Code_JEDEC: MO-187; ComponentLink1Description: Manufacturer URL; ComponentLink1URL: http://www.ti.com/; ComponentLink2Description: Datasheet; ComponentLink2URL: http://www.ti.com/general/docs/lit/getliterature.tsp?genericPartNumber=THS4503-EP&fileType=pdf; ComponentLink3Description: Package Specification; ComponentLink3URL: http://www.ti.com/litv/pdf/mpds046e
footprint TI-DGN8-1760X1425TP_N (SOP, 8-Leads, Body 3x3mm, Pitch 0.65mm, Thermal Pad 1.76x1.425mm, IPC Medium Density)
footprint TI-DGN8-1760X1425TP_L (SOP, 8-Leads, Body 3x3mm, Pitch 0.65mm, Thermal Pad 1.76x1.425mm, IPC High Density)
footprint TI-DGN8-1760X1425TP_M (SOP, 8-Leads, Body 3x3mm, Pitch 0.65mm, Thermal Pad 1.76 x 1.425 mm, IPC Low Density)
pins: 1 VIN- (in), 2 VOCM (in), 3 VS+ (power), 4 VOUT+ (out), 5 VOUT- (out), 6 VS- (power), 7 NC, 8 VIN+ (in), 9 EP

## THS4504D
designator U?
Wideband, Low Distortion Fully Differential Amplifier with Shutdown, 4.5 to 15 V, -40 to 85 degC, 8-pin SOIC (D8), Green (RoHS & no Sb/Br); Manufacturer: Texas Instruments; PartNumber: THS4504D; 2nd Harmonic(dBc): 66; 3rd Harmonic(dBc): 65; @ MHz: 30; BW @ Acl(MHz): 260; Io(Typ)(mA): 100; Iq per channel(Max)(mA): 21; Number of Channels: 1; Offset Voltage Drift (+/-)(Max)(uV/Degrees Celsius: 10; Settling Time (0.1%)(Typ)(ns): 20; Slew Rate(Typ)(V/us): 1800; THD (Fc is 1 MHz)(Typ)(dB): -78; Vio(Max)(mV): -7; Vn at Flatband(Typ)(nV/rtHz): 8; Vs(Max)(V): 15; Vs(Min)(V): 4.5; DatasheetVersion: SLOS363D; PackageVersion: 4040047-3/M, 06/2011; PackageReference: D8; PackageDescription: 8-Pin Plastic Small Outline, Body 4.9 x 3.9 mm, Pitch 1.27 mm; Supplier 1: Digi-Key; Supplier Part Number 1: 296-15618-5-ND; Supplier 2: Newark; Supplier Part Number 2: 02E7132; Supplier 3: Mouser; Supplier Part Number 3: 595-THS4504D; Eco-Plan: Green (RoHS & no Sb/Br); SubFamily: Fully Differential Amplifier; Mounting Technology: Surface Mount; Code_JEDEC: MS-012; ComponentLink1Description: Manufacturer URL; ComponentLink1URL: http://www.ti.com/; ComponentLink2Description: Datasheet; ComponentLink2URL: http://www.ti.com/general/docs/lit/getliterature.tsp?genericPartNumber=THS4504&fileType=pdf; ComponentLink3Description: Package Specification; ComponentLink3URL: http://www.ti.com/litv/pdf/msoi002j
footprint TI-D8_N (SOIC, 8-Leads, Body 4.9x3.9mm, Pitch 1.27mm, IPC Medium Density)
footprint TI-D8_L (SOIC, 8-Leads, Body 4.9x3.9mm, Pitch 1.27mm, IPC High Density)
footprint TI-D8_M (SOIC, 8-Leads, Body 4.9x3.9mm, Pitch 1.27mm, IPC Low Density)
pins: 1 VIN- (in) "Inverting amplifier input", 2 VOCM (in) "Common-mode voltage input", 3 VS+ (power) "Amplifier positive power-supply input", 4 VOUT+ (out) "Noninverting amplifier output", 5 VOUT- (out) "Inverting amplifier output", 6 VS- (power) "Amplifier negative power-supply input. Note that VS- is tied together on multi-channel devices.", 7 ~{PD} (in) "Power down. P\D\ = logic low puts device into low-power mode. P\D\ = logic high or open for normal operation.", 8 VIN+ (in) "Noninverting amplifier input"

## THS4504DG4
designator U?
Wideband, Low Distortion Fully Differential Amplifier with Shutdown, 4.5 to 15 V, -40 to 85 degC, 8-pin SOIC (D8), Green (RoHS & no Sb/Br); Manufacturer: Texas Instruments; PartNumber: THS4504DG4; 2nd Harmonic(dBc): 66; 3rd Harmonic(dBc): 65; @ MHz: 30; BW @ Acl(MHz): 260; Io(Typ)(mA): 100; Iq per channel(Max)(mA): 21; Number of Channels: 1; Offset Voltage Drift (+/-)(Max)(uV/Degrees Celsius: 10; Settling Time (0.1%)(Typ)(ns): 20; Slew Rate(Typ)(V/us): 1800; THD (Fc is 1 MHz)(Typ)(dB): -78; Vio(Max)(mV): -7; Vn at Flatband(Typ)(nV/rtHz): 8; Vs(Max)(V): 15; Vs(Min)(V): 4.5; DatasheetVersion: SLOS363D; PackageVersion: 4040047-3/M, 06/2011; PackageReference: D8; PackageDescription: 8-Pin Plastic Small Outline, Body 4.9 x 3.9 mm, Pitch 1.27 mm; Supplier 1: Digi-Key; Supplier Part Number 1: THS4504DG4-ND; Supplier 2: Mouser; Supplier Part Number 2: 595-THS4504DG4; Eco-Plan: Green (RoHS & no Sb/Br); SubFamily: Fully Differential Amplifier; Mounting Technology: Surface Mount; Code_JEDEC: MS-012; ComponentLink1Description: Manufacturer URL; ComponentLink1URL: http://www.ti.com/; ComponentLink2Description: Datasheet; ComponentLink2URL: http://www.ti.com/general/docs/lit/getliterature.tsp?genericPartNumber=THS4504&fileType=pdf; ComponentLink3Description: Package Specification; ComponentLink3URL: http://www.ti.com/litv/pdf/msoi002j
footprint TI-D8_N (SOIC, 8-Leads, Body 4.9x3.9mm, Pitch 1.27mm, IPC Medium Density)
footprint TI-D8_L (SOIC, 8-Leads, Body 4.9x3.9mm, Pitch 1.27mm, IPC High Density)
footprint TI-D8_M (SOIC, 8-Leads, Body 4.9x3.9mm, Pitch 1.27mm, IPC Low Density)
pins: 1 VIN- (in) "Inverting amplifier input", 2 VOCM (in) "Common-mode voltage input", 3 VS+ (power) "Amplifier positive power-supply input", 4 VOUT+ (out) "Noninverting amplifier output", 5 VOUT- (out) "Inverting amplifier output", 6 VS- (power) "Amplifier negative power-supply input. Note that VS- is tied together on multi-channel devices.", 7 ~{PD} (in) "Power down. P\D\ = logic low puts device into low-power mode. P\D\ = logic high or open for normal operation.", 8 VIN+ (in) "Noninverting amplifier input"

## THS4504DGK
designator U?
Wideband, Low Distortion Fully Differential Amplifier with Shutdown, 4.5 to 15 V, -40 to 85 degC, 8-pin SOP (DGK8), Green (RoHS & no Sb/Br); Manufacturer: Texas Instruments; PartNumber: THS4504DGK; 2nd Harmonic(dBc): 66; 3rd Harmonic(dBc): 65; @ MHz: 30; BW @ Acl(MHz): 260; Io(Typ)(mA): 100; Iq per channel(Max)(mA): 21; Number of Channels: 1; Offset Voltage Drift (+/-)(Max)(uV/Degrees Celsius: 10; Settling Time (0.1%)(Typ)(ns): 20; Slew Rate(Typ)(V/us): 1800; THD (Fc is 1 MHz)(Typ)(dB): -78; Vio(Max)(mV): -7; Vn at Flatband(Typ)(nV/rtHz): 8; Vs(Max)(V): 15; Vs(Min)(V): 4.5; DatasheetVersion: SLOS363D; PackageVersion: 4073329/E, 05/2006; PackageReference: DGK8; PackageDescription: 8-Pin Thin Small Outline, Body 3 x 3 mm, Pitch 0.65 mm; Supplier 1: Digi-Key; Supplier Part Number 1: 296-16796-5-ND; Supplier 2: Mouser; Supplier Part Number 2: 595-THS4504DGK; Eco-Plan: Green (RoHS & no Sb/Br); SubFamily: Fully Differential Amplifier; Mounting Technology: Surface Mount; Code_JEDEC: MO-187; ComponentLink1Description: Manufacturer URL; ComponentLink1URL: http://www.ti.com/; ComponentLink2Description: Datasheet; ComponentLink2URL: http://www.ti.com/general/docs/lit/getliterature.tsp?genericPartNumber=THS4504&fileType=pdf; ComponentLink3Description: Package Specification; ComponentLink3URL: http://www.ti.com/litv/pdf/mpds028d
footprint TI-DGK8_N (SOP, 8-Leads, Body 3x3mm, Pitch 0.65mm, IPC Medium Density)
footprint TI-DGK8_L (SOP, 8-Leads, Body 3x3mm, Pitch 0.65mm, IPC High Density)
footprint TI-DGK8_M (SOP, 8-Leads, Body 3x3mm, Pitch 0.65mm, IPC Low Density)
pins: 1 VIN- (in) "Inverting amplifier input", 2 VOCM (in) "Common-mode voltage input", 3 VS+ (power) "Amplifier positive power-supply input", 4 VOUT+ (out) "Noninverting amplifier output", 5 VOUT- (out) "Inverting amplifier output", 6 VS- (power) "Amplifier negative power-supply input. Note that VS- is tied together on multi-channel devices.", 7 ~{PD} (in) "Power down. P\D\ = logic low puts device into low-power mode. P\D\ = logic high or open for normal operation.", 8 VIN+ (in) "Noninverting amplifier input"

## THS4504DGKG4
designator U?
Wideband, Low Distortion Fully Differential Amplifier with Shutdown, 4.5 to 15 V, -40 to 85 degC, 8-pin SOP (DGK8), Green (RoHS & no Sb/Br); Manufacturer: Texas Instruments; PartNumber: THS4504DGKG4; 2nd Harmonic(dBc): 66; 3rd Harmonic(dBc): 65; @ MHz: 30; BW @ Acl(MHz): 260; Io(Typ)(mA): 100; Iq per channel(Max)(mA): 21; Number of Channels: 1; Offset Voltage Drift (+/-)(Max)(uV/Degrees Celsius: 10; Settling Time (0.1%)(Typ)(ns): 20; Slew Rate(Typ)(V/us): 1800; THD (Fc is 1 MHz)(Typ)(dB): -78; Vio(Max)(mV): -7; Vn at Flatband(Typ)(nV/rtHz): 8; Vs(Max)(V): 15; Vs(Min)(V): 4.5; DatasheetVersion: SLOS363D; PackageVersion: 4073329/E, 05/2006; PackageReference: DGK8; PackageDescription: 8-Pin Thin Small Outline, Body 3 x 3 mm, Pitch 0.65 mm; Supplier 1: Digi-Key; Supplier Part Number 1: THS4504DGKG4-ND; Supplier 2: Mouser; Supplier Part Number 2: 595-THS4504DGKG4; Eco-Plan: Green (RoHS & no Sb/Br); SubFamily: Fully Differential Amplifier; Mounting Technology: Surface Mount; Code_JEDEC: MO-187; ComponentLink1Description: Manufacturer URL; ComponentLink1URL: http://www.ti.com/; ComponentLink2Description: Datasheet; ComponentLink2URL: http://www.ti.com/general/docs/lit/getliterature.tsp?genericPartNumber=THS4504&fileType=pdf; ComponentLink3Description: Package Specification; ComponentLink3URL: http://www.ti.com/litv/pdf/mpds028d
footprint TI-DGK8_N (SOP, 8-Leads, Body 3x3mm, Pitch 0.65mm, IPC Medium Density)
footprint TI-DGK8_L (SOP, 8-Leads, Body 3x3mm, Pitch 0.65mm, IPC High Density)
footprint TI-DGK8_M (SOP, 8-Leads, Body 3x3mm, Pitch 0.65mm, IPC Low Density)
pins: 1 VIN- (in) "Inverting amplifier input", 2 VOCM (in) "Common-mode voltage input", 3 VS+ (power) "Amplifier positive power-supply input", 4 VOUT+ (out) "Noninverting amplifier output", 5 VOUT- (out) "Inverting amplifier output", 6 VS- (power) "Amplifier negative power-supply input. Note that VS- is tied together on multi-channel devices.", 7 ~{PD} (in) "Power down. P\D\ = logic low puts device into low-power mode. P\D\ = logic high or open for normal operation.", 8 VIN+ (in) "Noninverting amplifier input"

## THS4504DGN
designator U?
Wideband, Low Distortion Fully Differential Amplifier with Shutdown, 4.5 to 15 V, -40 to 85 degC, 8-pin SOP (DGN8), Green (RoHS & no Sb/Br); Manufacturer: Texas Instruments; PartNumber: THS4504DGN; 2nd Harmonic(dBc): 66; 3rd Harmonic(dBc): 65; @ MHz: 30; BW @ Acl(MHz): 260; Io(Typ)(mA): 100; Iq per channel(Max)(mA): 21; Number of Channels: 1; Offset Voltage Drift (+/-)(Max)(uV/Degrees Celsius: 10; Settling Time (0.1%)(Typ)(ns): 20; Slew Rate(Typ)(V/us): 1800; THD (Fc is 1 MHz)(Typ)(dB): -78; Vio(Max)(mV): -7; Vn at Flatband(Typ)(nV/rtHz): 8; Vs(Max)(V): 15; Vs(Min)(V): 4.5; DatasheetVersion: SLOS363D; PackageVersion: 4073271/F, 05/2011; PackageReference: DGN8-1760X1425TP; PackageDescription: 8-Pin Plastic Small Outline, Body 3 x 3 mm, Pitch 0.65 mm; Supplier 1: Digi-Key; Supplier Part Number 1: 296-15619-5-ND; Supplier 2: Newark; Supplier Part Number 2: 02E7133; Supplier 3: Mouser; Supplier Part Number 3: 595-THS4504DGN; Eco-Plan: Green (RoHS & no Sb/Br); SubFamily: Fully Differential Amplifier; Mounting Technology: Surface Mount; Code_JEDEC: MO-187; ComponentLink1Description: Manufacturer URL; ComponentLink1URL: http://www.ti.com/; ComponentLink2Description: Datasheet; ComponentLink2URL: http://www.ti.com/general/docs/lit/getliterature.tsp?genericPartNumber=THS4504&fileType=pdf; ComponentLink3Description: Package Specification; ComponentLink3URL: http://www.ti.com/litv/pdf/mpds046e
footprint TI-DGN8-1760X1425TP_N (SOP, 8-Leads, Body 3x3mm, Pitch 0.65mm, Thermal Pad 1.76x1.425mm, IPC Medium Density)
footprint TI-DGN8-1760X1425TP_L (SOP, 8-Leads, Body 3x3mm, Pitch 0.65mm, Thermal Pad 1.76x1.425mm, IPC High Density)
footprint TI-DGN8-1760X1425TP_M (SOP, 8-Leads, Body 3x3mm, Pitch 0.65mm, Thermal Pad 1.76 x 1.425 mm, IPC Low Density)
pins: 1 VIN- (in), 2 VOCM (in), 3 VS+ (power), 4 VOUT+ (out), 5 VOUT- (out), 6 VS- (power), 7 ~{PD} (in), 8 VIN+ (in), 9 EP

## THS4504DGNG4
designator U?
Wideband, Low Distortion Fully Differential Amplifier with Shutdown, 4.5 to 15 V, -40 to 85 degC, 8-pin SOP (DGN8), Green (RoHS & no Sb/Br); Manufacturer: Texas Instruments; PartNumber: THS4504DGNG4; 2nd Harmonic(dBc): 66; 3rd Harmonic(dBc): 65; @ MHz: 30; BW @ Acl(MHz): 260; Io(Typ)(mA): 100; Iq per channel(Max)(mA): 21; Number of Channels: 1; Offset Voltage Drift (+/-)(Max)(uV/Degrees Celsius: 10; Settling Time (0.1%)(Typ)(ns): 20; Slew Rate(Typ)(V/us): 1800; THD (Fc is 1 MHz)(Typ)(dB): -78; Vio(Max)(mV): -7; Vn at Flatband(Typ)(nV/rtHz): 8; Vs(Max)(V): 15; Vs(Min)(V): 4.5; DatasheetVersion: SLOS363D; PackageVersion: 4073271/F, 05/2011; PackageReference: DGN8-1760X1425TP; PackageDescription: 8-Pin Plastic Small Outline, Body 3 x 3 mm, Pitch 0.65 mm; Supplier 1: Digi-Key; Supplier Part Number 1: THS4504DGNG4-ND; Supplier 2: Mouser; Supplier Part Number 2: 595-THS4504DGNG4; Eco-Plan: Green (RoHS & no Sb/Br); SubFamily: Fully Differential Amplifier; Mounting Technology: Surface Mount; Code_JEDEC: MO-187; ComponentLink1Description: Manufacturer URL; ComponentLink1URL: http://www.ti.com/; ComponentLink2Description: Datasheet; ComponentLink2URL: http://www.ti.com/general/docs/lit/getliterature.tsp?genericPartNumber=THS4504&fileType=pdf; ComponentLink3Description: Package Specification; ComponentLink3URL: http://www.ti.com/litv/pdf/mpds046e
footprint TI-DGN8-1760X1425TP_N (SOP, 8-Leads, Body 3x3mm, Pitch 0.65mm, Thermal Pad 1.76x1.425mm, IPC Medium Density)
footprint TI-DGN8-1760X1425TP_L (SOP, 8-Leads, Body 3x3mm, Pitch 0.65mm, Thermal Pad 1.76x1.425mm, IPC High Density)
footprint TI-DGN8-1760X1425TP_M (SOP, 8-Leads, Body 3x3mm, Pitch 0.65mm, Thermal Pad 1.76 x 1.425 mm, IPC Low Density)
pins: 1 VIN- (in), 2 VOCM (in), 3 VS+ (power), 4 VOUT+ (out), 5 VOUT- (out), 6 VS- (power), 7 ~{PD} (in), 8 VIN+ (in), 9 EP

## THS4504DGNR
designator U?
Wideband, Low Distortion Fully Differential Amplifier with Shutdown, 4.5 to 15 V, -40 to 85 degC, 8-pin SOP (DGN8), Green (RoHS & no Sb/Br); Manufacturer: Texas Instruments; PartNumber: THS4504DGNR; 2nd Harmonic(dBc): 66; 3rd Harmonic(dBc): 65; @ MHz: 30; BW @ Acl(MHz): 260; Io(Typ)(mA): 100; Iq per channel(Max)(mA): 21; Number of Channels: 1; Offset Voltage Drift (+/-)(Max)(uV/Degrees Celsius: 10; Settling Time (0.1%)(Typ)(ns): 20; Slew Rate(Typ)(V/us): 1800; THD (Fc is 1 MHz)(Typ)(dB): -78; Vio(Max)(mV): -7; Vn at Flatband(Typ)(nV/rtHz): 8; Vs(Max)(V): 15; Vs(Min)(V): 4.5; DatasheetVersion: SLOS363D; PackageVersion: 4073271/F, 05/2011; PackageReference: DGN8-1760X1425TP; PackageDescription: 8-Pin Plastic Small Outline, Body 3 x 3 mm, Pitch 0.65 mm; Supplier 1: Digi-Key; Supplier Part Number 1: THS4504DGNR-ND; Supplier 2: Mouser; Supplier Part Number 2: 595-THS4504DGNR; Eco-Plan: Green (RoHS & no Sb/Br); SubFamily: Fully Differential Amplifier; Mounting Technology: Surface Mount; Code_JEDEC: MO-187; ComponentLink1Description: Manufacturer URL; ComponentLink1URL: http://www.ti.com/; ComponentLink2Description: Datasheet; ComponentLink2URL: http://www.ti.com/general/docs/lit/getliterature.tsp?genericPartNumber=THS4504&fileType=pdf; ComponentLink3Description: Package Specification; ComponentLink3URL: http://www.ti.com/litv/pdf/mpds046e
footprint TI-DGN8-1760X1425TP_N (SOP, 8-Leads, Body 3x3mm, Pitch 0.65mm, Thermal Pad 1.76x1.425mm, IPC Medium Density)
footprint TI-DGN8-1760X1425TP_L (SOP, 8-Leads, Body 3x3mm, Pitch 0.65mm, Thermal Pad 1.76x1.425mm, IPC High Density)
footprint TI-DGN8-1760X1425TP_M (SOP, 8-Leads, Body 3x3mm, Pitch 0.65mm, Thermal Pad 1.76 x 1.425 mm, IPC Low Density)
pins: 1 VIN- (in), 2 VOCM (in), 3 VS+ (power), 4 VOUT+ (out), 5 VOUT- (out), 6 VS- (power), 7 ~{PD} (in), 8 VIN+ (in), 9 EP

## THS4504DGNRG4
designator U?
Wideband, Low Distortion Fully Differential Amplifier with Shutdown, 4.5 to 15 V, -40 to 85 degC, 8-pin SOP (DGN8), Green (RoHS & no Sb/Br); Manufacturer: Texas Instruments; PartNumber: THS4504DGNRG4; 2nd Harmonic(dBc): 66; 3rd Harmonic(dBc): 65; @ MHz: 30; BW @ Acl(MHz): 260; Io(Typ)(mA): 100; Iq per channel(Max)(mA): 21; Number of Channels: 1; Offset Voltage Drift (+/-)(Max)(uV/Degrees Celsius: 10; Settling Time (0.1%)(Typ)(ns): 20; Slew Rate(Typ)(V/us): 1800; THD (Fc is 1 MHz)(Typ)(dB): -78; Vio(Max)(mV): -7; Vn at Flatband(Typ)(nV/rtHz): 8; Vs(Max)(V): 15; Vs(Min)(V): 4.5; DatasheetVersion: SLOS363D; PackageVersion: 4073271/F, 05/2011; PackageReference: DGN8-1760X1425TP; PackageDescription: 8-Pin Plastic Small Outline, Body 3 x 3 mm, Pitch 0.65 mm; Supplier 1: Digi-Key; Supplier Part Number 1: THS4504DGNRG4-ND; Supplier 2: Mouser; Supplier Part Number 2: 595-THS4504DGNRG4; Eco-Plan: Green (RoHS & no Sb/Br); SubFamily: Fully Differential Amplifier; Mounting Technology: Surface Mount; Code_JEDEC: MO-187; ComponentLink1Description: Manufacturer URL; ComponentLink1URL: http://www.ti.com/; ComponentLink2Description: Datasheet; ComponentLink2URL: http://www.ti.com/general/docs/lit/getliterature.tsp?genericPartNumber=THS4504&fileType=pdf; ComponentLink3Description: Package Specification; ComponentLink3URL: http://www.ti.com/litv/pdf/mpds046e
footprint TI-DGN8-1760X1425TP_N (SOP, 8-Leads, Body 3x3mm, Pitch 0.65mm, Thermal Pad 1.76x1.425mm, IPC Medium Density)
footprint TI-DGN8-1760X1425TP_L (SOP, 8-Leads, Body 3x3mm, Pitch 0.65mm, Thermal Pad 1.76x1.425mm, IPC High Density)
footprint TI-DGN8-1760X1425TP_M (SOP, 8-Leads, Body 3x3mm, Pitch 0.65mm, Thermal Pad 1.76 x 1.425 mm, IPC Low Density)
pins: 1 VIN- (in), 2 VOCM (in), 3 VS+ (power), 4 VOUT+ (out), 5 VOUT- (out), 6 VS- (power), 7 ~{PD} (in), 8 VIN+ (in), 9 EP

## THS4504DR
designator U?
Wideband, Low Distortion Fully Differential Amplifier with Shutdown, 4.5 to 15 V, -40 to 85 degC, 8-pin SOIC (D8), Green (RoHS & no Sb/Br); Manufacturer: Texas Instruments; PartNumber: THS4504DR; 2nd Harmonic(dBc): 66; 3rd Harmonic(dBc): 65; @ MHz: 30; BW @ Acl(MHz): 260; Io(Typ)(mA): 100; Iq per channel(Max)(mA): 21; Number of Channels: 1; Offset Voltage Drift (+/-)(Max)(uV/Degrees Celsius: 10; Settling Time (0.1%)(Typ)(ns): 20; Slew Rate(Typ)(V/us): 1800; THD (Fc is 1 MHz)(Typ)(dB): -78; Vio(Max)(mV): -7; Vn at Flatband(Typ)(nV/rtHz): 8; Vs(Max)(V): 15; Vs(Min)(V): 4.5; DatasheetVersion: SLOS363D; PackageVersion: 4040047-3/M, 06/2011; PackageReference: D8; PackageDescription: 8-Pin Plastic Small Outline, Body 4.9 x 3.9 mm, Pitch 1.27 mm; Supplier 1: Digi-Key; Supplier Part Number 1: THS4504DR-ND; Supplier 2: Mouser; Supplier Part Number 2: 595-THS4504DR; Eco-Plan: Green (RoHS & no Sb/Br); SubFamily: Fully Differential Amplifier; Mounting Technology: Surface Mount; Code_JEDEC: MS-012; ComponentLink1Description: Manufacturer URL; ComponentLink1URL: http://www.ti.com/; ComponentLink2Description: Datasheet; ComponentLink2URL: http://www.ti.com/general/docs/lit/getliterature.tsp?genericPartNumber=THS4504&fileType=pdf; ComponentLink3Description: Package Specification; ComponentLink3URL: http://www.ti.com/litv/pdf/msoi002j
footprint TI-D8_N (SOIC, 8-Leads, Body 4.9x3.9mm, Pitch 1.27mm, IPC Medium Density)
footprint TI-D8_L (SOIC, 8-Leads, Body 4.9x3.9mm, Pitch 1.27mm, IPC High Density)
footprint TI-D8_M (SOIC, 8-Leads, Body 4.9x3.9mm, Pitch 1.27mm, IPC Low Density)
pins: 1 VIN- (in) "Inverting amplifier input", 2 VOCM (in) "Common-mode voltage input", 3 VS+ (power) "Amplifier positive power-supply input", 4 VOUT+ (out) "Noninverting amplifier output", 5 VOUT- (out) "Inverting amplifier output", 6 VS- (power) "Amplifier negative power-supply input. Note that VS- is tied together on multi-channel devices.", 7 ~{PD} (in) "Power down. P\D\ = logic low puts device into low-power mode. P\D\ = logic high or open for normal operation.", 8 VIN+ (in) "Noninverting amplifier input"

## THS4504DRG4
designator U?
Wideband, Low Distortion Fully Differential Amplifier with Shutdown, 4.5 to 15 V, -40 to 85 degC, 8-pin SOIC (D8), Green (RoHS & no Sb/Br); Manufacturer: Texas Instruments; PartNumber: THS4504DRG4; 2nd Harmonic(dBc): 66; 3rd Harmonic(dBc): 65; @ MHz: 30; BW @ Acl(MHz): 260; Io(Typ)(mA): 100; Iq per channel(Max)(mA): 21; Number of Channels: 1; Offset Voltage Drift (+/-)(Max)(uV/Degrees Celsius: 10; Settling Time (0.1%)(Typ)(ns): 20; Slew Rate(Typ)(V/us): 1800; THD (Fc is 1 MHz)(Typ)(dB): -78; Vio(Max)(mV): -7; Vn at Flatband(Typ)(nV/rtHz): 8; Vs(Max)(V): 15; Vs(Min)(V): 4.5; DatasheetVersion: SLOS363D; PackageVersion: 4040047-3/M, 06/2011; PackageReference: D8; PackageDescription: 8-Pin Plastic Small Outline, Body 4.9 x 3.9 mm, Pitch 1.27 mm; Supplier 1: Digi-Key; Supplier Part Number 1: THS4504DRG4-ND; Supplier 2: Mouser; Supplier Part Number 2: 595-THS4504DRG4; Eco-Plan: Green (RoHS & no Sb/Br); SubFamily: Fully Differential Amplifier; Mounting Technology: Surface Mount; Code_JEDEC: MS-012; ComponentLink1Description: Manufacturer URL; ComponentLink1URL: http://www.ti.com/; ComponentLink2Description: Datasheet; ComponentLink2URL: http://www.ti.com/general/docs/lit/getliterature.tsp?genericPartNumber=THS4504&fileType=pdf; ComponentLink3Description: Package Specification; ComponentLink3URL: http://www.ti.com/litv/pdf/msoi002j
footprint TI-D8_N (SOIC, 8-Leads, Body 4.9x3.9mm, Pitch 1.27mm, IPC Medium Density)
footprint TI-D8_L (SOIC, 8-Leads, Body 4.9x3.9mm, Pitch 1.27mm, IPC High Density)
footprint TI-D8_M (SOIC, 8-Leads, Body 4.9x3.9mm, Pitch 1.27mm, IPC Low Density)
pins: 1 VIN- (in) "Inverting amplifier input", 2 VOCM (in) "Common-mode voltage input", 3 VS+ (power) "Amplifier positive power-supply input", 4 VOUT+ (out) "Noninverting amplifier output", 5 VOUT- (out) "Inverting amplifier output", 6 VS- (power) "Amplifier negative power-supply input. Note that VS- is tied together on multi-channel devices.", 7 ~{PD} (in) "Power down. P\D\ = logic low puts device into low-power mode. P\D\ = logic high or open for normal operation.", 8 VIN+ (in) "Noninverting amplifier input"

## THS4505D
designator U?
Wideband, Low-Distortion Fully Differential Amplifier, 4.5 to 15 V, -40 to 85 degC, 8-pin SOIC (D8), Green (RoHS & no Sb/Br); Manufacturer: Texas Instruments; PartNumber: THS4505D; 2nd Harmonic(dBc): 66; 3rd Harmonic(dBc): 65; @ MHz: 30; BW @ Acl(MHz): 260; Io(Typ)(mA): 100; Iq per channel(Max)(mA): 21; Number of Channels: 1; Offset Voltage Drift (+/-)(Max)(uV/Degrees Celsius: 10; Settling Time (0.1%)(Typ)(ns): 20; Slew Rate(Typ)(V/us): 1800; THD (Fc is 1 MHz)(Typ)(dB): -78; Vio(Max)(mV): -7; Vn at Flatband(Typ)(nV/rtHz): 8; Vs(Max)(V): 15; Vs(Min)(V): 4.5; DatasheetVersion: SLOS363D; PackageVersion: 4040047-3/M, 06/2011; PackageReference: D8; PackageDescription: 8-Pin Plastic Small Outline, Body 4.9 x 3.9 mm, Pitch 1.27 mm; Supplier 1: Digi-Key; Supplier Part Number 1: 296-15620-5-ND; Supplier 2: Farnell; Supplier Part Number 2: 8453411; Supplier 3: Newark; Supplier Part Number 3: 38K8267; Supplier 4: Mouser; Supplier Part Number 4: 595-THS4505D; Eco-Plan: Green (RoHS & no Sb/Br); SubFamily: Fully Differential Amplifier; Mounting Technology: Surface Mount; Code_JEDEC: MS-012; ComponentLink1Description: Manufacturer URL; ComponentLink1URL: http://www.ti.com/; ComponentLink2Description: Datasheet; ComponentLink2URL: http://www.ti.com/general/docs/lit/getliterature.tsp?genericPartNumber=THS4505&fileType=pdf; ComponentLink3Description: Package Specification; ComponentLink3URL: http://www.ti.com/litv/pdf/msoi002j
footprint TI-D8_N (SOIC, 8-Leads, Body 4.9x3.9mm, Pitch 1.27mm, IPC Medium Density)
footprint TI-D8_L (SOIC, 8-Leads, Body 4.9x3.9mm, Pitch 1.27mm, IPC High Density)
footprint TI-D8_M (SOIC, 8-Leads, Body 4.9x3.9mm, Pitch 1.27mm, IPC Low Density)
pins: 1 VIN- (in), 2 VOCM (in), 3 VS+ (power), 4 VOUT+ (out), 5 VOUT- (out), 6 VS- (power), 7 NC, 8 VIN+ (in)

## THS4505DG4
designator U?
Wideband, Low-Distortion Fully Differential Amplifier, 4.5 to 15 V, -40 to 85 degC, 8-pin SOIC (D8), Green (RoHS & no Sb/Br); Manufacturer: Texas Instruments; PartNumber: THS4505DG4; 2nd Harmonic(dBc): 66; 3rd Harmonic(dBc): 65; @ MHz: 30; BW @ Acl(MHz): 260; Io(Typ)(mA): 100; Iq per channel(Max)(mA): 21; Number of Channels: 1; Offset Voltage Drift (+/-)(Max)(uV/Degrees Celsius: 10; Settling Time (0.1%)(Typ)(ns): 20; Slew Rate(Typ)(V/us): 1800; THD (Fc is 1 MHz)(Typ)(dB): -78; Vio(Max)(mV): -7; Vn at Flatband(Typ)(nV/rtHz): 8; Vs(Max)(V): 15; Vs(Min)(V): 4.5; DatasheetVersion: SLOS363D; PackageVersion: 4040047-3/M, 06/2011; PackageReference: D8; PackageDescription: 8-Pin Plastic Small Outline, Body 4.9 x 3.9 mm, Pitch 1.27 mm; Supplier 1: Digi-Key; Supplier Part Number 1: THS4505DG4-ND; Supplier 2: Mouser; Supplier Part Number 2: 595-THS4505DG4; Eco-Plan: Green (RoHS & no Sb/Br); SubFamily: Fully Differential Amplifier; Mounting Technology: Surface Mount; Code_JEDEC: MS-012; ComponentLink1Description: Manufacturer URL; ComponentLink1URL: http://www.ti.com/; ComponentLink2Description: Datasheet; ComponentLink2URL: http://www.ti.com/general/docs/lit/getliterature.tsp?genericPartNumber=THS4505&fileType=pdf; ComponentLink3Description: Package Specification; ComponentLink3URL: http://www.ti.com/litv/pdf/msoi002j
footprint TI-D8_N (SOIC, 8-Leads, Body 4.9x3.9mm, Pitch 1.27mm, IPC Medium Density)
footprint TI-D8_L (SOIC, 8-Leads, Body 4.9x3.9mm, Pitch 1.27mm, IPC High Density)
footprint TI-D8_M (SOIC, 8-Leads, Body 4.9x3.9mm, Pitch 1.27mm, IPC Low Density)
pins: 1 VIN- (in), 2 VOCM (in), 3 VS+ (power), 4 VOUT+ (out), 5 VOUT- (out), 6 VS- (power), 7 NC, 8 VIN+ (in)